# Altium schematic symbol library Button.SchLib: 1 symbol
Pins are listed as number, name and electrical type; pins without a type are passive.

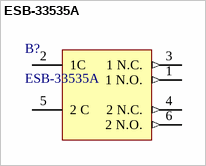
[diagram p0: symbol ESB-33535A]

## ESB-33535A
designator B?
Pushbutton Switch, DPDT, Momentary, 0.2A, 14VDC, Solder Terminal, Surface Mount-straight; Manufacturer: Panasonic; Actuator Length: 6.5024mm; Contact Current Rating: 200mA; Electrical Life: 10kcycles; Max Voltage Rating (DC): 14V; Operating Force: 4N; Supplier: Avnet; Supplier Part Number: ESB-33535A; Manufacturer Part Number: ESB-33535A; RoHS: Compliant; Category: Pushbutton Switches; Stock: 5400; Pricing: 300=1,46613, 600=1,43739, 1200=1,41701, 2400=1,39721, 4800=1,3745 (USD); Case/Package: SMD/SMT; Height: 6mm; Length: 9.85mm; Lifecycle Status: Production; Max Current Rating: 200mA; Max Operating Temperature: 70°C; Min Operating Temperature: -10°C; Mounting Technology: Surface Mount; Packaging: Tape & Reel; Radiation Hardening: No; Schedule B: 8536509030, 8536509030|8536509030|8536509030|8536509030|8536509030; Termination: Solder; Throw Configuration: DPDT; Voltage Rating (DC): 14V; ComponentLink1URL: https://datasheet.octopart.com:443/ESB33535A-Panasonic-datasheet-93783763.pdf?src-supplier=IHS; ComponentLink1Description: https://datasheet.octopart.com:443/ESB33535A-Panasonic-datasheet-93783763.pdf?src-supplier=IHS; ComponentLink2URL: https://datasheet.octopart.com:443/ESB-33535A-Panasonic-datasheet-138738884.pdf?src-supplier=Electro+Sonic; ComponentLink2Description: https://datasheet.octopart.com:443/ESB-33535A-Panasonic-datasheet-138738884.pdf?src-supplier=Electro+Sonic; Supplier 1: DigiKey; Supplier Part Number 1: P15877SCT-ND
footprint SOIC_Boton
pins: 1 1 N.O. (out), 2 1C, 3 1 N.C. (out), 4 2 N.C. (out), 5 2 C, 6 2 N.O. (out)